# Altium footprint library PCB_Switch.PcbLib: 1 footprints
Each footprint in its own frame and in the unit in brackets; x right, y up, seen from the top. Pads: shape width x height; smd on the part's side, far side on the other; paste and mask are expansions set on the pad; w line width, h text height; cw(c..) or ccw(c..) is an arc to the next point about the centre after c.
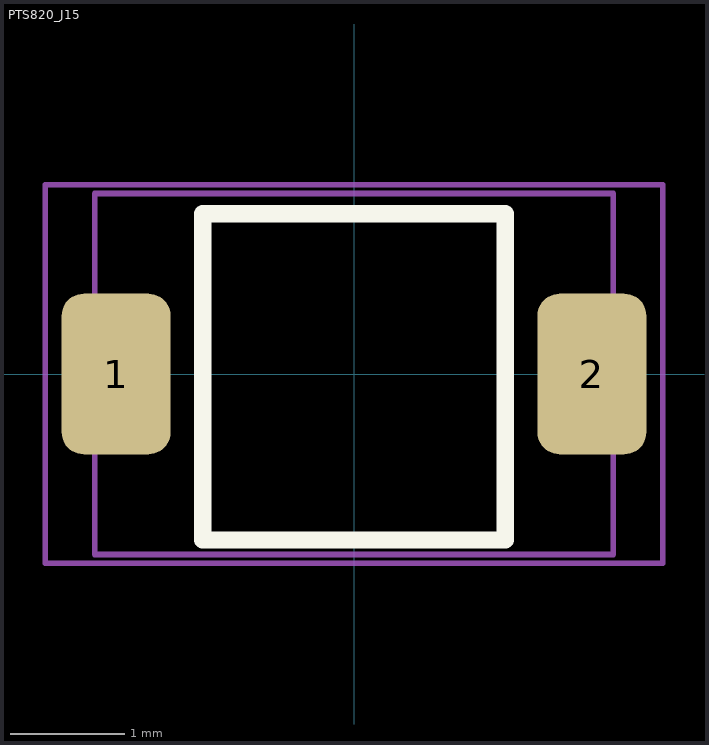
[diagram p0: the footprint, top view; thin cyan lines are the x and y axes]

## PTS820_J15 [mm]
pads (2):
  rrect40% 0.95x1.4 smd: 1(-2.075,0) 2(2.075,0)
Top Overlay:
  lines w0.152: -1.321,-1.448 1.321,-1.448 1.321,1.397 -1.321,1.397 -1.321,-1.448
Mechanical 13:
  lines w0.051: -2.261,-1.575 2.261,-1.575 2.261,1.575 -2.261,1.575 -2.261,-1.575
Mechanical 14:
  lines w0.051: -2.692,-1.651 -2.692,1.651 2.692,1.651 2.692,-1.651 -2.692,-1.651
  text ".Designator" at -1.016,-0.635 h1.27
3D body "Y97MT26B5CBFP.stp": height 1.54, standoff 0.04, extent -2.25,-1.473 2.25,1.427